# Altium integrated library Opamp_Comparator.IntLib: 5 symbols
Pins are listed as number, name and electrical type; pins without a type are passive.

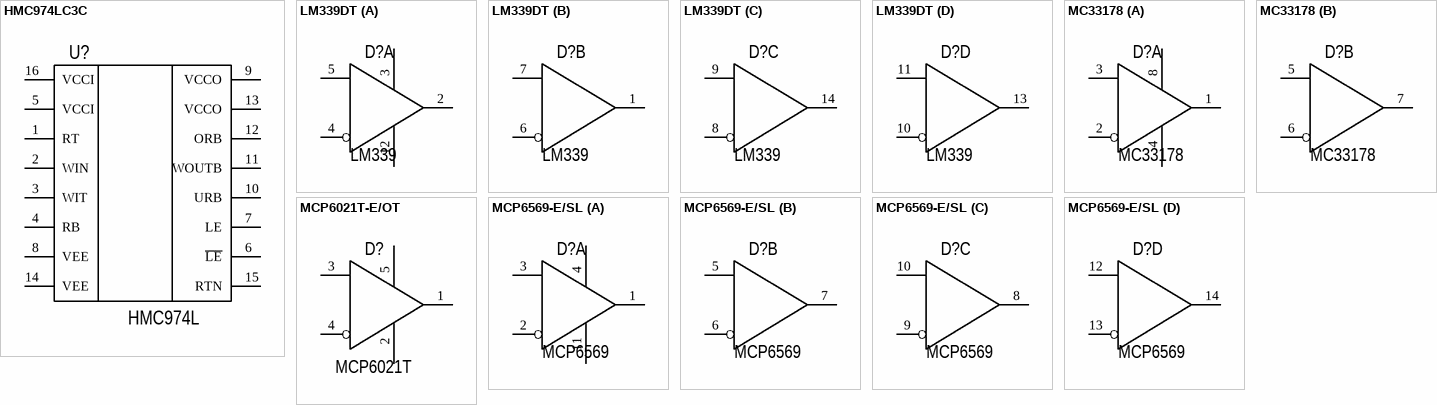
[diagram p0: symbols HMC974LC3C to MCP6569-E/SL]

## HMC974LC3C
designator U?, comment HMC974L
Comparator Window - 16-SMT (3x3); Manufacture: Analog Devices Inc.; Model: HMC974LC3C; Name: Компаратор; Case: 16-SMT (3x3); HelpURL: https://www.digikey.com/en/products/detail/analog-devices-inc/HMC974LC3C/4476171; Value: HMC974L
footprint 16-SMT (3x3)
pins: 1 RT, 2 WIN, 3 WIT, 4 RB, 5 VCCI, 6 ~{LE}, 7 LE, 8 VEE, 9 VCCO, 10 URB, 11 WOUTB, 12 ORB, 13 VCCO, 14 VEE, 15 RTN, 16 VCCI

## LM339DT
designator D?, comment LM339
Comparator; Manufacture: STMicroelectronics; Model: LM339DT; Name: Компаратор; Case: 14-SO; HelpURL: https://www.digikey.com/en/products/detail/stmicroelectronics/LM339DT/591690; Value: LM339
footprint 14-SO
part A pins: 2 OUT1, 3 +Vcc, 4 -IN1, 5 +IN1, 12 -Vcc
part B pins: 1 OUT2, 6 -IN2, 7 +IN2
part C pins: 8 -IN3, 9 +IN3, 14 OUT3
part D pins: 10 -IN4, 11 +IN4, 13 OUT4

## MC33178
designator D?
IC OPAMP GP 2 CIRCUIT 8SOIC; Manufacture: onsemi; Model: MC33178DR2G; Name: Операционный усилитель; Case: SOIC-8; HelpURL: https://www.digikey.com/en/products/detail/onsemi/MC33178DR2G/919026?s=N4IgTCBcDaILIGEDMSCMB2AHAEQEpgHEQBdAXyA; Value: MC33178
footprint 8-SOIC (0.154", 3.90mm Width) (SOIC, 8-Leads, Body 4,90x3,90mm, Pitch 1,27mm, IPC Medium Density)
part A pins: 1 OUT1, 2 IN1, 3 IN1, 4 -Vcc, 8 +Vcc
part B pins: 5 IN2, 6 IN2, 7 OUT2

## MCP6021T-E/OT
designator D?, comment MCP6021T
IC OPAMP GP 1 CIRCUIT SOT23-5; Manufacture: Microchip Technology; Model: MCP6021T-E/OT; Name: Операционный усилитель; Case: SOT-23-5; HelpURL: https://www.digikey.com/en/products/detail/microchip-technology/MCP6021T-E-OT/1098523; Value: MCP6021T
footprint SOT-23-5 (SC-74A, SOT-753)
pins: 1 OUT1, 2 -Vss, 3 IN1, 4 IN1, 5 +Vdd

## MCP6569-E/SL
designator D?, comment MCP6569
Comparator; Manufacture: Microchip Technology; Model: MCP6569-E/SL; Name: Компаратор; Case: 14-SOIC; HelpURL: https://www.digikey.com/en/products/detail/microchip-technology/MCP6569-E-SL/1680953?s=N4IgTCBcDaILIGEAKA2ArCgnAWgKIHoBlAGRAF0BfIA; Value: MCP6569
footprint 14-SOIC (0.154", 3.90mm Width) - duplicate (SOIC, 14-Leads, Body 8,65x3,90mm, Pitch 1,27mm, IPC Medium Density)
part A pins: 1 OUT1, 2 -IN1, 3 +IN1, 4 +VDD, 11 -Vss
part B pins: 5 +IN2, 6 -IN2, 7 OUT2
part C pins: 8 OUT3, 9 -IN3, 10 +IN3
part D pins: 12 +IN4, 13 -IN4, 14 OUT4